# Altium footprint library ZVP4525ZTA.PcbLib: 3 footprints
Each footprint in its own frame and in the unit in brackets; x right, y up, seen from the top. Pads: shape width x height; smd on the part's side, far side on the other; paste and mask are expansions set on the pad; w line width, h text height; cw(c..) or ccw(c..) is an arc to the next point about the centre after c.
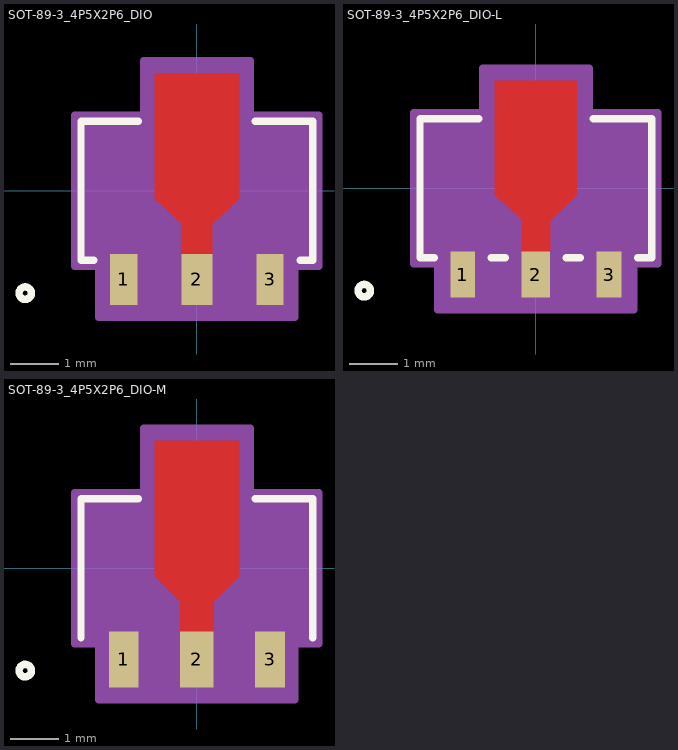
[diagram p0: the footprints below, top view; thin cyan lines are the x and y axes]

## SOT-89-3_4P5X2P6_DIO [mil]
pads (3):
  rect 22x41 smd paste+0 mask+0: 1(-59.06,-71.5) 3(59.06,-71.5)
  rect 25x41 smd paste+0 mask+0: 2(0,-71.5)
Top Layer:
  region: 12.5,-51 -12.5,-51 -12.5,-26 -34,-6.5 -34,95 34,95 34,-6.5 12.5,-27
Top Overlay:
  circle w6: c-138.5,-82.5 r5
  lines w6: -83.16,-56 -93.5,-56 -93.5,56 -47.1,56 ; 47.1,56 93.5,56 93.5,-56 83.16,-56
Top Paste:
  region: 12.5,-51 -12.5,-51 -12.5,-26 -33,-5.5 -33,89 33,89 33,-5.5 12.5,-26
Top Solder:
  region: 12.5,-51 -12.5,-51 -12.5,-26 -33,-5.5 -33,89 33,89 33,-5.5 12.5,-26
Mechanical 13:
  circle w0: c-78.5,-41 r5
  lines w1: -88.5,-51 88.5,-51 88.5,51 -88.5,51 -88.5,-51 ; -70.06,-84 -70.06,-51 -48.06,-51 -48.06,-84 -70.06,-84 ; -12.5,-84 -12.5,-51 12.5,-51 12.5,-84 -12.5,-84 ; 48.06,-84 48.06,-51 70.06,-51 70.06,-84 48.06,-84
Mechanical 15:
  region: -98.5,-61 -98.5,61 -43,61 -43,105 43,105 43,61 98.5,61 98.5,-61 79.06,-61 79.06,-102 -79.06,-102 -79.06,-61
  lines w6: -98.5,-61 -98.5,61 -43,61 -43,105 43,105 43,61 98.5,61 98.5,-61 79.06,-61 79.06,-102 -79.06,-102 -79.06,-61 -98.5,-61
3D body "SOT-89-3_4P5X2P6_DIO.step": height 632.09, standoff 0, extent -88.5,-84.02 88.5,93.57

## SOT-89-3_4P5X2P6_DIO-L [mil]
pads (3):
  rect 20x37 smd paste+0 mask+0: 1(-59.06,-69.5) 3(59.06,-69.5)
  rect 23x37 smd paste+0 mask+0: 2(0,-69.5)
Top Layer:
  region: 11.5,-51 -11.5,-51 -11.5,-25 -33,-5.5 -33,87 33,87 33,-5.5 11.5,-26
Top Overlay:
  circle w6: c-138.5,-82.5 r5
  lines w6: -82.16,-56 -93.5,-56 -93.5,56 -46.1,56 ; -35.96,-56 -24.6,-56 ; 24.6,-56 35.96,-56 ; 46.1,56 93.5,56 93.5,-56 82.16,-56
Top Paste:
  region: 11.5,-50 -11.5,-50 -11.5,-25 -32,-4.5 -32,85 32,85 32,-4.5 11.5,-25
Top Solder:
  region: 11.5,-50 -11.5,-50 -11.5,-25 -32,-4.5 -32,85 32,85 32,-4.5 11.5,-25
Mechanical 13:
  circle w0: c-78.5,-41 r5
  lines w1: -88.5,-51 88.5,-51 88.5,51 -88.5,51 -88.5,-51 ; -70.06,-84 -70.06,-51 -48.06,-51 -48.06,-84 -70.06,-84 ; -12.5,-84 -12.5,-51 12.5,-51 12.5,-84 -12.5,-84 ; 48.06,-84 48.06,-51 70.06,-51 70.06,-84 48.06,-84
Mechanical 15:
  region: -98.5,-61 -98.5,61 -43,61 -43,97 43,97 43,61 98.5,61 98.5,-61 79.06,-61 79.06,-98 -79.06,-98 -79.06,-61
  lines w6: -98.5,-61 -98.5,61 -43,61 -43,97 43,97 43,61 98.5,61 98.5,-61 79.06,-61 79.06,-98 -79.06,-98 -79.06,-61 -98.5,-61
3D body "SOT-89-3_4P5X2P6_DIO.step": height 632.09, standoff 0, extent -88.5,-84.02 88.5,93.57

## SOT-89-3_4P5X2P6_DIO-M [mil]
pads (3):
  rect 24x45 smd paste+0 mask+0: 1(-59.06,-73.5) 3(59.06,-73.5)
  rect 27x45 smd paste+0 mask+0: 2(0,-73.5)
Top Layer:
  region: 13.5,-51 -13.5,-51 -13.5,-27 -34,-6.5 -34,103 34,103 34,-6.5 13.5,-27
Top Overlay:
  circle w6: c-138.5,-82.5 r5
  lines w6: -93.5,-56 -93.5,56 -47.1,56 ; 47.1,56 93.5,56 93.5,-56
Top Paste:
  region: 13.5,-52 -13.5,-52 -13.5,-27 -34,-6.5 -34,93 34,93 34,-6.5 13.5,-27
Top Solder:
  region: 13.5,-52 -13.5,-52 -13.5,-27 -34,-6.5 -34,93 34,93 34,-6.5 13.5,-27
Mechanical 13:
  circle w0: c-78.5,-41 r5
  lines w1: -88.5,-51 88.5,-51 88.5,51 -88.5,51 -88.5,-51 ; -70.06,-84 -70.06,-51 -48.06,-51 -48.06,-84 -70.06,-84 ; -12.5,-84 -12.5,-51 12.5,-51 12.5,-84 -12.5,-84 ; 48.06,-84 48.06,-51 70.06,-51 70.06,-84 48.06,-84
Mechanical 15:
  region: -98.5,-61 -98.5,61 -43,61 -43,113 43,113 43,61 98.5,61 98.5,-61 79.06,-61 79.06,-106 -79.06,-106 -79.06,-61
  lines w6: -98.5,-61 -98.5,61 -43,61 -43,113 43,113 43,61 98.5,61 98.5,-61 79.06,-61 79.06,-106 -79.06,-106 -79.06,-61 -98.5,-61
3D body "SOT-89-3_4P5X2P6_DIO.step": height 632.09, standoff 0, extent -88.5,-84.02 88.5,93.57